# EAGLE library part 8-PIN-MOLEX-RA-FEMALE (library master_library)
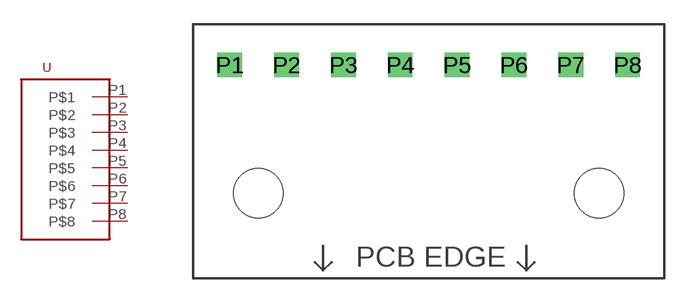
[diagram p4: symbol with the pads of 8-PIN-MOLEX; footprint 8-PIN-MOLEX]

Designator prefix -

## 8-PIN-MOLEX-RA-FEMALE  [8-PIN-MOLEX]
P1  P$1
P2  P$2
P3  P$3
P4  P$4
P5  P$5
P6  P$6
P7  P$7
P8  P$8

## Footprint 8-PIN-MOLEX (pad centres in mm)
drill 1.02 square: P1 2.248,13.16; P2 5.748,13.16; P3 9.248,13.16; P4 12.748,13.16; P5 16.248,13.16; P6 19.748,13.16; P7 23.248,13.16; P8 26.748,13.16
hole 3.05 at 4,5.25
hole 3.05 at 25,5.25